# Altium footprint library SOIC24P127_1539X1030X265L65X42N.PcbLib: 1 footprints
Each footprint in its own frame and in the unit in brackets; x right, y up, seen from the top. Pads: shape width x height; smd on the part's side, far side on the other; paste and mask are expansions set on the pad; w line width, h text height; cw(c..) or ccw(c..) is an arc to the next point about the centre after c.
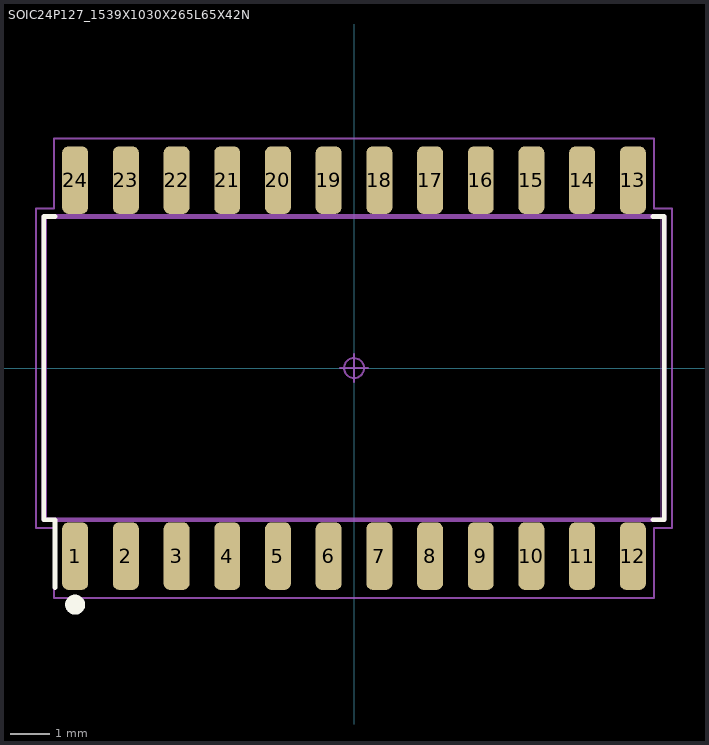
[diagram p0: the footprint, top view; thin cyan lines are the x and y axes]

## SOIC24P127_1539X1030X265L65X42N [mm] "Small Outline IC (SOIC), 1.27 mm pitch; 24 pin, 15.395 mm L X 7.50 mm W X 2.65 mm H body"
height 2.65
pads (24):
  rrect49% 0.65x1.69 smd: 1(-6.985,-4.71) 2(-5.715,-4.71) 3(-4.445,-4.71) 4(-3.175,-4.71) 5(-1.905,-4.71) 6(-0.635,-4.71) 7(0.635,-4.71) 8(1.905,-4.71) 9(3.175,-4.71) 10(4.445,-4.71) 11(5.715,-4.71) 12(6.985,-4.71) 13(6.985,4.71) 14(5.715,4.71) 15(4.445,4.71) 16(3.175,4.71) 17(1.905,4.71) 18(0.635,4.71) 19(-0.635,4.71) 20(-1.905,4.71) 21(-3.175,4.71) 22(-4.445,4.71) 23(-5.715,4.71) 24(-6.985,4.71)
Top Overlay:
  circle w0.25: c-6.985,-5.925 r0.125
  lines w0.12: -7.49,-5.495 -7.49,-3.8 -7.77,-3.8 -7.77,3.8 -7.49,3.8 ; 7.49,-3.8 7.77,-3.8 7.77,3.8 7.49,3.8
Mechanical 11:
  lines w0.12: -7.77,-3.8 -7.77,3.8 7.77,3.8 7.77,-3.8 -7.77,-3.8
Mechanical 12:
  lines w0.025: -7.698,-3.75 -7.698,3.75 7.698,3.75 7.698,-3.75 -7.698,-3.75 ; -7.195,-5.15 -6.775,-5.15 -6.775,-4.495 -7.195,-4.495 -7.195,-5.15 ; -7.195,4.495 -6.775,4.495 -6.775,5.15 -7.195,5.15 -7.195,4.495 ; -5.925,-5.15 -5.505,-5.15 -5.505,-4.495 -5.925,-4.495 -5.925,-5.15 ; -5.925,4.495 -5.505,4.495 -5.505,5.15 -5.925,5.15 -5.925,4.495 ; -4.655,-5.15 -4.235,-5.15 -4.235,-4.495 -4.655,-4.495 -4.655,-5.15 ; -4.655,4.495 -4.235,4.495 -4.235,5.15 -4.655,5.15 -4.655,4.495 ; -3.385,-5.15 -2.965,-5.15 -2.965,-4.495 -3.385,-4.495 -3.385,-5.15 ; -3.385,4.495 -2.965,4.495 -2.965,5.15 -3.385,5.15 -3.385,4.495 ; -2.115,-5.15 -1.695,-5.15 -1.695,-4.495 -2.115,-4.495 -2.115,-5.15 ; -2.115,4.495 -1.695,4.495 -1.695,5.15 -2.115,5.15 -2.115,4.495 ; -0.845,-5.15 -0.425,-5.15 -0.425,-4.495 -0.845,-4.495 -0.845,-5.15 ; -0.845,4.495 -0.425,4.495 -0.425,5.15 -0.845,5.15 -0.845,4.495 ; 0.425,-5.15 0.845,-5.15 0.845,-4.495 0.425,-4.495 0.425,-5.15 ; 0.425,4.495 0.845,4.495 0.845,5.15 0.425,5.15 0.425,4.495 ; 1.695,-5.15 2.115,-5.15 2.115,-4.495 1.695,-4.495 1.695,-5.15 ; 1.695,4.495 2.115,4.495 2.115,5.15 1.695,5.15 1.695,4.495 ; 2.965,-5.15 3.385,-5.15 3.385,-4.495 2.965,-4.495 2.965,-5.15 ; 2.965,4.495 3.385,4.495 3.385,5.15 2.965,5.15 2.965,4.495 ; 4.235,-5.15 4.655,-5.15 4.655,-4.495 4.235,-4.495 4.235,-5.15 ; 4.235,4.495 4.655,4.495 4.655,5.15 4.235,5.15 4.235,4.495 ; 5.505,-5.15 5.925,-5.15 5.925,-4.495 5.505,-4.495 5.505,-5.15 ; 5.505,4.495 5.925,4.495 5.925,5.15 5.505,5.15 5.505,4.495 ; 6.775,-5.15 7.195,-5.15 7.195,-4.495 6.775,-4.495 6.775,-5.15 ; 6.775,4.495 7.195,4.495 7.195,5.15 6.775,5.15 6.775,4.495
Mechanical 15:
  circle w0.05: c0,0 r0.25
  lines w0.05: -0.35,0 0.35,0 ; 0,-0.35 0,0.35 ; -7.97,-4 -7.97,4 -7.51,4 -7.51,5.755 7.51,5.755 7.51,4 7.97,4 7.97,-4 7.51,-4 7.51,-5.755 -7.51,-5.755 -7.51,-4 -7.97,-4
Mechanical 16:
  text ".Designator" at 0,0 h1.2
3D body: height 2.65, standoff 0, extent -7.698,-5.15 7.698,5.15